# Altium schematic symbol library 10114830-10104LF.SchLib: 1 symbol
Pins are listed as number, name and electrical type; pins without a type are passive.

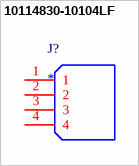
[diagram p0: symbol 10114830-10104LF]

## 10114830-10104LF
designator J?
1.25mm Wire to Board Wafer, Right Angle, Surface Mount, 4 Positions; MF: Amphenol ICC (FCI); MP: 10114830-10104LF; SnapEDA_Link: https://www.snapeda.com/parts/10114830-10104LF/Amphenol+FCI/view-part/?ref=snap; Package: None; Value: *; Check_prices: https://www.snapeda.com/parts/10114830-10104LF/Amphenol+FCI/view-part/?ref=eda
footprint AMPHENOL_10114830-10104LF
pins: 1, 2, 3, 4